# EAGLE library part 0541044031 (library ruark2)
CONN FFC TOP 40POS 0.50MM R/A
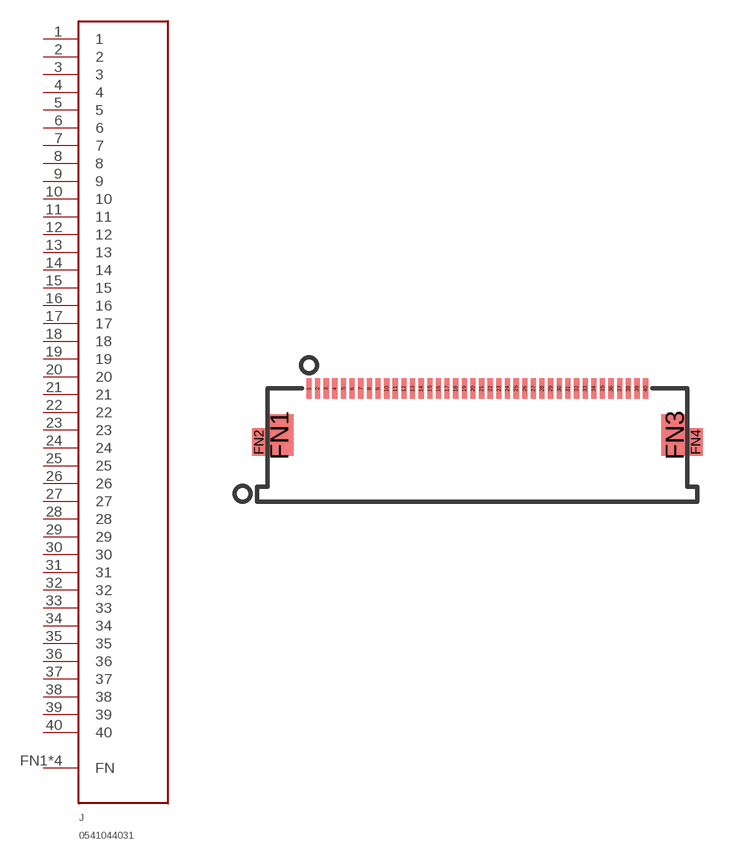
[diagram p142: symbol with the pads of 54104-4031; footprint 54104-4031]

Designator prefix J

## 0541044031 (PARTNO: WM3431CT-ND)  [54104-4031]
1  1
2  2
3  3
4  4
5  5
6  6
7  7
8  8
9  9
10  10
11  11
12  12
13  13
14  14
15  15
16  16
17  17
18  18
19  19
20  20
21  21
22  22
23  23
24  24
25  25
26  26
27  27
28  28
29  29
30  30
31  31
32  32
33  33
34  34
35  35
36  36
37  37
38  38
39  39
40  40
FN1  FN
FN2  FN
FN3  FN
FN4  FN

## Footprint 54104-4031 (pad centres in mm)
smd 0.3 x 1.2: 1 -9.75,0; 2 -9.25,0; 3 -8.75,0; 4 -8.25,0; 5 -7.75,0; 6 -7.25,0; 7 -6.75,0; 8 -6.25,0; 9 -5.75,0; 10 -5.25,0; 11 -4.75,0; 12 -4.25,0; 13 -3.75,0; 14 -3.25,0; 15 -2.75,0; 16 -2.25,0; 17 -1.75,0; 18 -1.25,0; 19 -0.75,0; 20 -0.25,0; 21 0.25,0; 22 0.75,0; 23 1.25,0; 24 1.75,0; 25 2.25,0; 26 2.75,0; 27 3.25,0; 28 3.75,0; 29 4.25,0; 30 4.75,0; 31 5.25,0; 32 5.75,0; 33 6.25,0; 34 6.75,0; 35 7.25,0; 36 7.75,0; 37 8.25,0; 38 8.75,0; 39 9.25,0; 40 9.75,0
smd 1.6 x 2.4: FN1 -11.45,-2.7; FN3 11.45,-2.7
smd 0.8 x 1.6: FN2 -12.65,-3.1; FN4 12.65,-3.1